# Altium footprint library hsbest3.PcbLib: 363 footprints (part 22 of 23)
Each footprint in its own frame and in the unit in brackets; x right, y up, seen from the top. Pads: shape width x height; smd on the part's side, far side on the other; paste and mask are expansions set on the pad; w line width, h text height; cw(c..) or ccw(c..) is an arc to the next point about the centre after c.
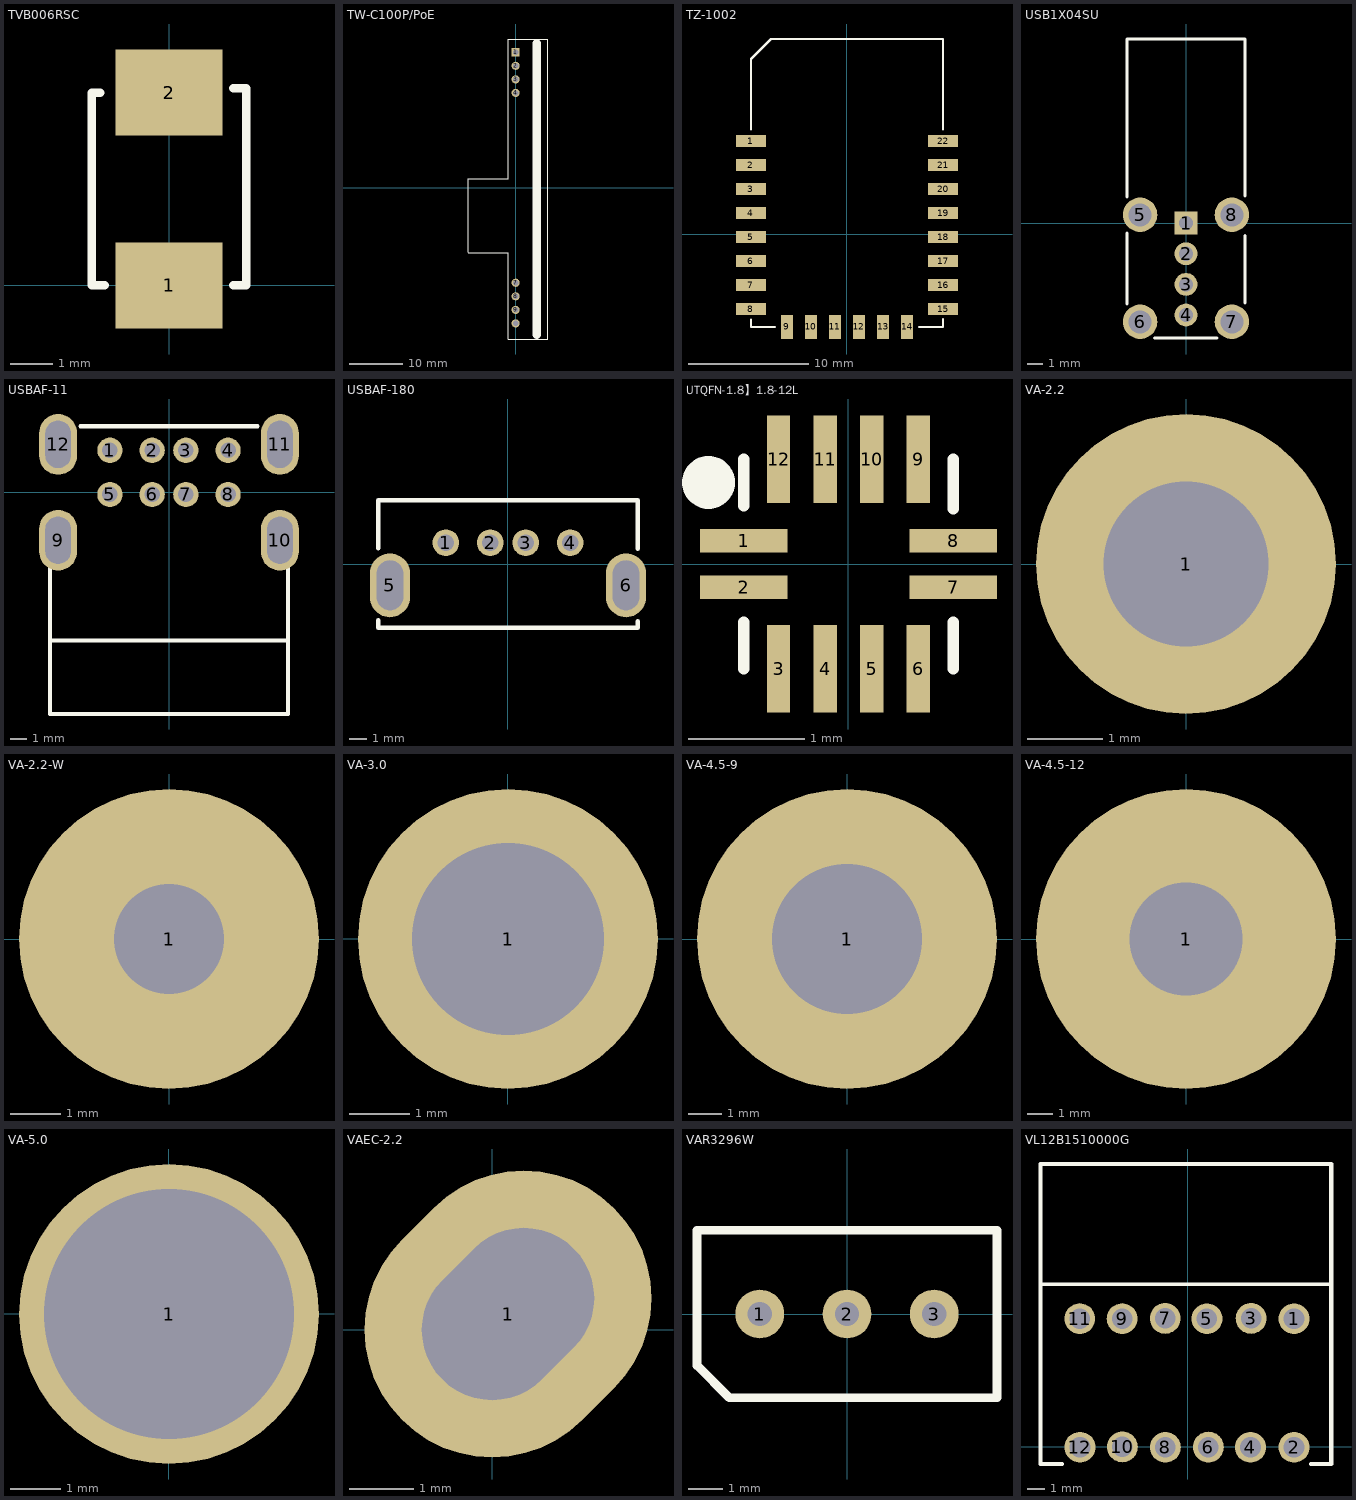
[diagram p21: the footprints below, top view; thin cyan lines are the x and y axes]

## TVB006RSC [mm]
pads (2):
  rect 2.5x2 smd: 1(0,0) 2(0,4.5)
Top Overlay:
  lines w0.2: -1.6,4.5 -1.8,4.5 -1.8,4.4 -1.8,0 -1.5,0 ; 1.5,0 1.8,0 1.8,4.5 1.8,4.6 1.5,4.6

## TW-C100P/PoE [mm]
pads (8):
  rect 1.524x1.524 hole 1: 1(0,25.435)
  rrect100% 1.524x1.524 hole 1: 2(0,22.895) 3(0,20.345) 4(0,17.805) 7(0,-17.815) 8(0,-20.355) 9(0,-22.895) 10(0,-25.435)
Top Overlay:
  lines w0.1: -8.85,-12.15 -1.333,-12.15 -1.333,-28.365 6,-28.365 6,27.925 -1.333,27.925 -1.333,1.725 -8.85,1.725 -8.85,-12.125
  lines w1.6: 4,-27.575 4,27.15

## TZ-1002 [mm]
pads (22):
  rect 2.5x1 smd: 1(-8,7.74) 2(-8,5.74) 3(-8,3.74) 4(-8,1.74) 5(-8,-0.26) 6(-8,-2.26) 7(-8,-4.26) 8(-8,-6.26) 15(8,-6.26) 16(8,-4.26) 17(8,-2.26) 18(8,-0.26) 19(8,1.74) 20(8,3.74) 21(8,5.74) 22(8,7.74)
  rect 1x2 smd: 9(-5,-7.74) 10(-3,-7.74) 11(-1,-7.74) 12(1,-7.74) 13(3,-7.74) 14(5,-7.74)
Top Overlay:
  lines w0.2: -8,-7.115 -8,-7.74 -6,-7.74 ; -8,8.735 -8,14.585 -6.325,16.26 8,16.26 8,8.735 ; 6,-7.74 8,-7.74 8,-7.09

## USB1X04SU [mm]
pads (8):
  rect 1.5x1.5 hole 0.92: 1(0,0)
  rrect100% 1.5x1.5 hole 0.92: 2(0,-2) 3(0,-4) 4(0,-6)
  rrect100% 2.25x2.25 hole 1.5: 5(-3,0.55) 6(-3,-6.45) 7(3,-6.45) 8(3,0.55)
Top Overlay:
  lines w0.2: -3.85,-5.275 -3.85,-0.65 ; -3.85,1.7 -3.85,12.05 3.85,12.05 3.85,1.775 ; -2.05,-7.5 2.025,-7.5 ; 3.85,-5.225 3.85,-0.8

## USBAF-11 [mm]
pads (12):
  round 1.5 hole 0.92: 1(-3.5,2.49) 2(-1,2.49) 3(1,2.49) 4(3.5,2.49) 5(-3.5,-0.13) 6(-1,-0.13) 7(1,-0.13) 8(3.5,-0.13)
  oval 2.25x3.6 hole 1.5 slot 2.8 at 90 deg: 9(-6.57,-2.84) 10(6.57,-2.84) 11(6.57,2.84) 12(-6.57,2.84)
Top Overlay:
  lines w0.254: -7.05,-8.79 7.05,-8.79 ; -7.05,-4.275 -7.05,-13.14 7.05,-13.14 7.05,-4.3 ; -5.25,3.91 5.25,3.91

## USBAF-180 [mm]
pads (6):
  round 1.5 hole 0.92: 1(-3.5,1.2) 2(-1,1.2) 3(1,1.2) 4(3.5,1.2)
  oval 2.25x3.6 hole 1.5 slot 2.8 at 90 deg: 5(-6.65,-1.2) 6(6.65,-1.2)
Top Overlay:
  lines w0.254: -7.3,-3.175 -7.3,-3.6 7.3,-3.6 7.3,-3.225 ; -7.3,0.9 -7.3,3.6 7.3,3.6 7.3,0.85

## UTQFN-1.8】1.8-12L [mm]
pads (12):
  rect 0.75x0.2 smd: 1(-0.9,0.2) 2(-0.9,-0.2) 7(0.9,-0.2) 8(0.9,0.2)
  rect 0.2x0.75 smd: 3(-0.6,-0.9) 4(-0.2,-0.9) 5(0.2,-0.9) 6(0.6,-0.9) 9(0.6,0.9) 10(0.2,0.9) 11(-0.2,0.9) 12(-0.6,0.9)
Top Overlay:
  circle w0.254: c-1.2,0.7 r0.1
  lines w0.1: -0.9,-0.9 -0.9,-0.5 ; -0.9,0.5 -0.9,0.9 ; 0.9,-0.9 0.9,-0.5 ; 0.9,0.475 0.9,0.9

## VA-2.2 [mm]
pads (1):
  rrect100% 4x4 hole 2.2: 1(0,0)

## VA-2.2-W [mm]
pads (1):
  rrect100% 6x6 hole 2.2: 1(0,0)

## VA-3.0 [mm]
pads (1):
  rrect100% 5x5 hole 3.2: 1(0.005,-0.007)

## VA-4.5-9 [mm]
pads (1):
  rrect100% 9x9 hole 4.5: 1(0,0)

## VA-4.5-12 [mm]
pads (1):
  rrect100% 12x12 hole 4.5: 1(0,0)

## VA-5.0 [mm]
pads (1):
  rrect100% 6x6 hole 5: 1(0.005,-0.007)

## VAEC-2.2 [mm]
pads (1):
  rrect100% 4.7x4 hole 2.2 slot 2.9 at 45 deg rot 45: 1(0.25,0.25)

## VAR3296W [mm]
pads (3):
  round 1.4 hole 0.7: 1(-2.5,0) 2(0,0) 3(2.5,0)
Top Overlay:
  lines w0.254: -4.3,-1.475 -4.3,2.4 4.3,2.4 4.3,-2.4 -3.375,-2.4 -4.3,-1.475

## VL12B1510000G [mm]
pads (12):
  rrect100% 1.8x1.8 hole 1.2: 1(6.213,7.473) 2(6.213,-0.027) 3(3.706,7.492) 4(3.673,-0.027) 5(1.133,7.473) 6(1.219,-0.014) 7(-1.305,7.492) 8(-1.292,-0.028) 9(-3.819,7.478) 10(-3.801,-0.007) 11(-6.287,7.478) 12(-6.276,-0.022)
Top Overlay:
  lines w0.2: -8.501,9.497 8.397,9.497
  lines w0.254: -7.325,-1.002 -8.578,-1.002 -8.578,16.503 8.393,16.503 8.393,-1.002 7.2,-1.002